# Altium schematic symbol library SCH - DRIVER - LED - TI TPS92640PWP.SchLib: 1 symbol
Pins are listed as number, name and electrical type; pins without a type are passive.

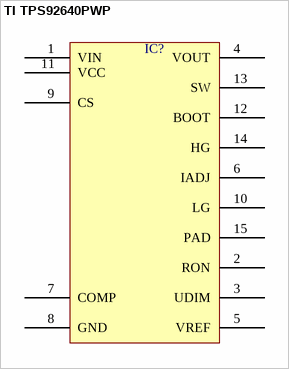
[diagram p0: symbol TI TPS92640PWP]

## TI TPS92640PWP
designator IC?  (value not drawn)
pins: 1 VIN, 2 RON, 3 UDIM, 4 VOUT, 5 VREF, 6 IADJ, 7 COMP, 8 GND, 9 CS, 10 LG, 11 VCC, 12 BOOT, 13 SW, 14 HG, 15 PAD